# Altium footprint library CTS-L250HW200H100-4.PcbLib: 1 footprints
Each footprint in its own frame and in the unit in brackets; x right, y up, seen from the top. Pads: shape width x height; smd on the part's side, far side on the other; paste and mask are expansions set on the pad; w line width, h text height; cw(c..) or ccw(c..) is an arc to the next point about the centre after c.
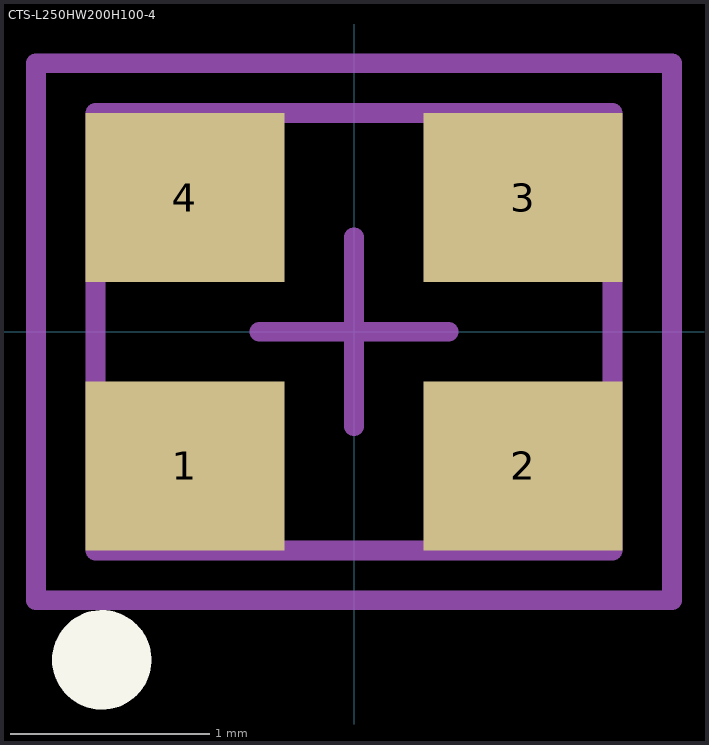
[diagram p0: the footprint, top view; thin cyan lines are the x and y axes]

## CTS-L250HW200H100-4 [mm] "4-Pads, Body 2.5 x 2.0 mm, Height 1.0mm"
height 1
pads (4):
  rect 1x0.85 smd: 1(-0.85,-0.675) 2(0.85,-0.675) 3(0.85,0.675) 4(-0.85,0.675)
Top Overlay:
  circle w0.25: c-1.268,-1.65 r0.125
Mechanical 13:
  lines w0.1: -1.3,-1.1 1.3,-1.1 1.3,1.1 -1.3,1.1 -1.3,-1.1
Mechanical 15:
  lines w0.1: -0.475,0 0.475,0 ; 0,-0.475 0,0.475 ; -1.6,-1.35 1.6,-1.35 1.6,1.35 -1.6,1.35 -1.6,-1.35
3D body: height 0.8, standoff -0.03, extent -1.25,-1 1.25,1